# EAGLE library part MIC5282 (library MIC5283)
LDO Voltage Regulators 120V/50mA Low Iq, High PSRR LDO WITH 8-PIN MSOP PACKAGING Source: http://www.mouser.com/ds/2/268/MIC5282-778930.pdf
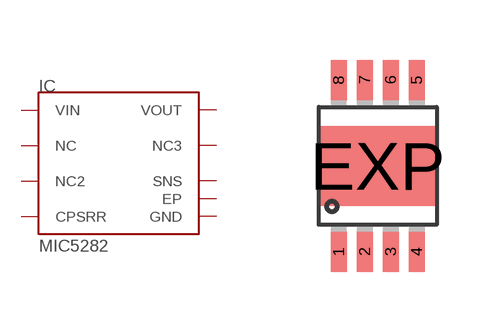
[diagram p0: symbol with the pads of MSOP08; footprint MSOP08]

Designator prefix IC

## MIC5282 (MFG: Micrel; MFG#: MIC5282-5.0YMME)  [MSOP08]
1  VIN  in
2  NC  in
3  NC2  in
4  CPSRR  in
5  GND  pwr
6  SNS  in
7  NC3  out
8  VOUT  out

## Footprint MSOP08 (pad centres in mm)
MSOP08 DGN (R-PDSO-G8) MSOP-08
smd 0.4 x 1: 1 -0.975,-2.15; 2 -0.325,-2.15; 3 0.325,-2.15; 4 0.975,-2.15; 5 0.975,2.15; 6 0.325,2.15; 7 -0.325,2.15; 8 -0.975,2.15
smd 3 x 2: EXP 0,0